# Altium schematic symbol library SMD_R_JMP.Schlib: 1 symbol
Pins are listed as number, name and electrical type; pins without a type are passive.

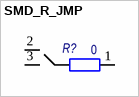
[diagram p0: symbol SMD_R_JMP]

## SMD_R_JMP
designator R?, comment 0
SMD Resistor-Jumper; Назначение: Схема выбора с использованием резистора; Наименование: Р1-12-0.125 ОСМ; Потребление, Вт: 0,0; Value: 0
footprint SJMP_0805
footprint SJMP_0402
pins: 1, 2, 3